# Altium footprint library SS.PcbLib: 9 footprints
Each footprint in its own frame and in the unit in brackets; x right, y up, seen from the top. Pads: shape width x height; smd on the part's side, far side on the other; paste and mask are expansions set on the pad; w line width, h text height; cw(c..) or ccw(c..) is an arc to the next point about the centre after c.
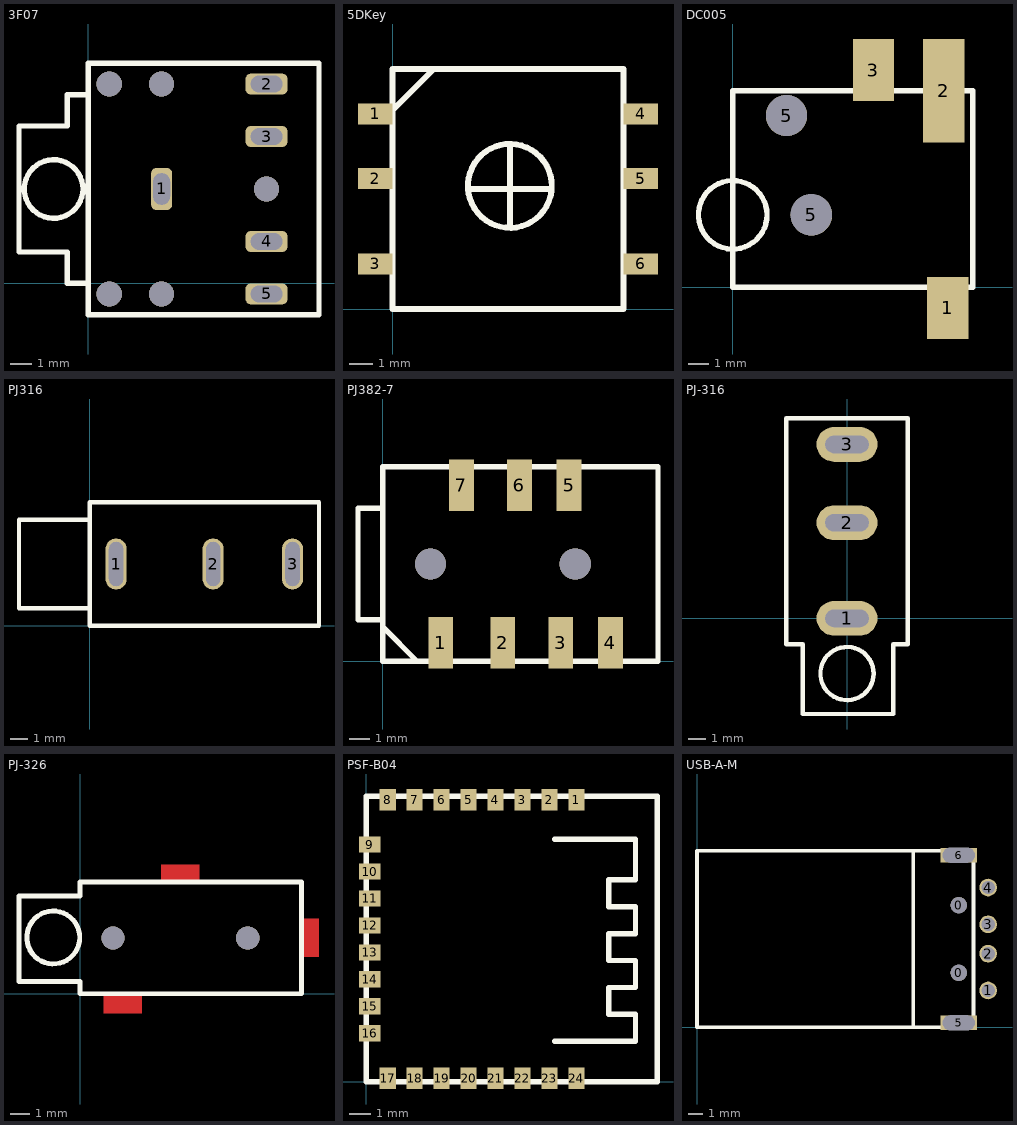
[diagram p0: the footprints below, top view; thin cyan lines are the x and y axes]

## 3F07 [mm] "EarPhone3.5"
pads (5):
  rrect50% 1x2 hole 0.8 slot 1.5 at 90 deg: 1(3.5,4.5)
  rrect50% 2x1 hole 0.8 slot 1.5 at 0 deg: 2(8.5,9.5) 3(8.5,7) 4(8.5,2) 5(8.5,-0.5)
via 1,9.5 diameter 1.2 hole 1.2
via 3.5,9.5 diameter 1.2 hole 1.2
via 1,-0.5 diameter 1.2 hole 1.2
via 3.5,-0.5 diameter 1.2 hole 1.2
via 8.5,4.5 diameter 1.2 hole 1.2
Top Overlay:
  circle w0.254: c-1.65,4.5 r1.397
  lines w0.254: 0,0 -1,0 -1,1.5 -3.3,1.5 -3.3,7.5 -1,7.5 -1,9 0,9 ; 0,0 0,-1.5 11,-1.5 11,10.5 0,10.5 0,9 ; 0,0 0,9

## 5DKey [mm] "5向按键贴片10*10*9"
pads (6):
  rect 1.5x0.9 smd: 1(-0.75,8.45) 2(-0.75,5.65) 3(-0.75,1.95) 4(10.75,8.45) 5(10.75,5.65) 6(10.75,1.95)
Top Overlay:
  circle w0.254: c5.08,5.334 r1.818
  lines w0.254: 0,8.509 0,8.622 1.778,10.4 ; 3.302,5.2 6.898,5.2 ; 5.08,3.556 5.08,7.112 ; 0,0 10,0 10,10.4 0,10.4 0,0

## DC005 [mm] "贴片5.5-2.1"
pads (5):
  rect 2x3 smd: 1(10.4,-1) 3(6.8,10.5)
  rect 2x5 smd: 2(10.2,9.5)
  round 2 hole 2: 5(2.6,8.3) 5(3.8,3.5)
Top Overlay:
  circle w0.254: c0,3.5 r1.656
  lines w0.254: 0,0 11.6,0 11.6,9.5 0,9.5 0,0

## PJ316 [mm] "PJ316"
pads (3):
  oval 1.2x2.9 hole 0.8 slot 2.5 at 90 deg: 1(1.5,3.5) 2(7,3.5) 3(11.5,3.5)
Top Overlay:
  lines w0.254: 0,1 -4,1 -4,6 0,6 ; 0,0 13,0 13,7 0,7 0,0

## PJ382-7 [mm] "4段耳机贴片"
pads (7):
  rect 1.2x2.5 smd: 1(2.8,0.9) 2(5.8,0.9) 3(8.6,0.9) 4(11,0.9) 5(9,8.5) 6(6.6,8.5) 7(3.8,8.5)
via 9.3,4.7 diameter 1.5 hole 1.5
via 2.3,4.7 diameter 1.5 hole 1.5
Top Overlay:
  lines w0.254: -0.034,7.4 -1.2,7.4 -1.2,2 -0.032,2 ; 0,1.651 1.651,0 ; 0,0 0,9.4 13.3,9.4 13.3,0 0,0

## PJ-316 [mm] "3.5EarPhone"
pads (3):
  oval 3.5x2 hole 1 slot 2.5 at 0 deg: 1(0,0) 2(0,5.5) 3(0,10)
Top Overlay:
  circle w0.254: c0,-3.175 r1.529
  lines w0.254: -3.5,-1.5 -2.54,-1.5 -2.54,-5.5 2.667,-5.5 2.667,-1.5 3.5,-1.5 3.5,11.5 -3.5,11.5 -3.5,-1.5

## PJ-326 [mm] "EarPhone 3.5"
via 1.7,2.9 diameter 1.2 hole 1.2
via 8.7,2.9 diameter 1.2 hole 1.2
Top Layer:
  rectangle: 1.2,-1.016 3.2,-0.116
  rectangle: 4.2,5.8 6.2,6.7
  rectangle: 11.5,1.9 12.4,3.9
Top Overlay:
  circle w0.254: c-1.397,2.921 r1.374
  lines w0.254: -3.175,0.635 -3.175,5.08 0,5.08 0,5.8 11.5,5.8 11.5,0 0,0 0,0.635 -3.175,0.635

## PSF-B04 [mm] "物联网开关芯片"
pads (24):
  rect 0.76x1.02 smd: 1(9.91,13.29) 2(8.64,13.29) 3(7.37,13.29) 4(6.1,13.29) 5(4.83,13.29) 6(3.56,13.29) 7(2.29,13.29) 8(1.02,13.29) 17(1.02,0.17) 18(2.29,0.17) 19(3.56,0.17) 20(4.83,0.17) 21(6.1,0.17) 22(7.37,0.17) 23(8.64,0.17) 24(9.91,0.17)
  rect 1.02x0.76 smd: 9(0.17,11.18) 10(0.17,9.91) 11(0.17,8.64) 12(0.17,7.37) 13(0.17,6.1) 14(0.17,4.83) 15(0.17,3.56) 16(0.17,2.29)
Top Overlay:
  lines w0.254: 8.89,1.905 12.7,1.905 12.7,3.175 11.43,3.175 11.43,4.445 12.7,4.445 12.7,5.715 11.43,5.715 11.43,6.985 12.7,6.985 12.7,8.255 11.43,8.255 11.43,9.525 12.7,9.525 12.7,11.43 8.89,11.43 ; 0,0 13.72,0 13.72,13.46 0,13.46 0,0

## USB-A-M [mm] "USB-A 公头"
pads (8):
  round 1.1 hole 1.1: 0(17.8,3.7) 0(17.8,8.3)
  round 1.2 hole 0.9: 1(19.8,2.5) 2(19.8,5) 3(19.8,7) 4(19.8,9.5)
  rect 2.5x1 hole 1 slot 2.2 at 0 deg: 5(17.8,0.3) 6(17.8,11.7)
Top Overlay:
  lines w0.254: 14.7,0 14.7,12 ; 0,0 18.8,0 18.8,12 0,12 0,0